# Altium schematic symbol library Electromechanics.SchLib: 6 symbols
Pins are listed as number, name and electrical type; pins without a type are passive.

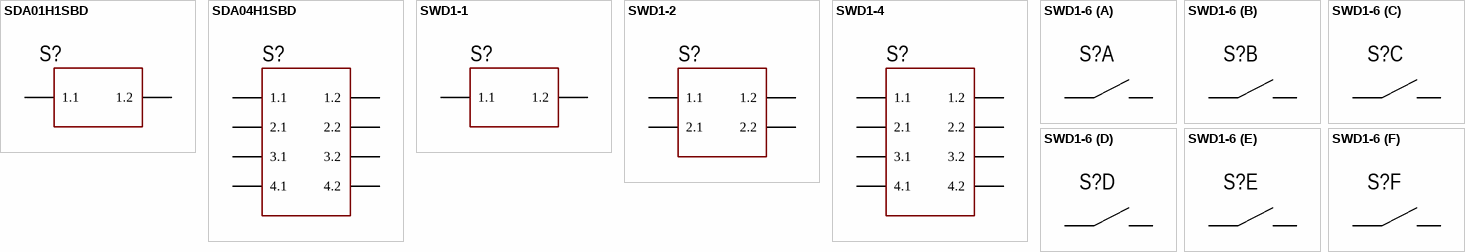
[diagram p0: symbols SDA01H1SBD to SWD1-6]

## SDA01H1SBD
designator S?  (value not drawn)
Part: SDA01H1SBD
footprint SDA01H1SBD
pins: 1 1.1, 2 1.2

## SDA04H1SBD
designator S?  (value not drawn)
Part: SDA04H1SBD
footprint SDA04H1SBD
pins: 1 1.1, 2 2.1, 3 3.1, 4 4.1, 5 4.2, 6 3.2, 7 2.2, 8 1.2

## SWD1-1
designator S?  (value not drawn)
footprint SWD1-1
pins: 1 1.1, 2 1.2

## SWD1-2
designator S?  (value not drawn)
footprint SWD1-2
pins: 1 1.1, 2 2.1, 3 2.2, 4 1.2

## SWD1-4
designator S?  (value not drawn)
footprint SWD1-4
pins: 1 1.1, 2 2.1, 3 3.1, 4 4.1, 5 4.2, 6 3.2, 7 2.2, 8 1.2

## SWD1-6
designator S?  (value not drawn)
Part: SWD1-6
footprint SWD1-6
part A pins: 1, 12
part B pins: 2, 11
part C pins: 3, 10
part D pins: 4, 9
part E pins: 5, 8
part F pins: 6, 7